# EAGLE library part RJ45-ZP5JA88 (library dragino)
Mod. Jack, Right Angle, 8 posiotion, 8 contatcs RJ45 Source: GLX-S-88M.pdf
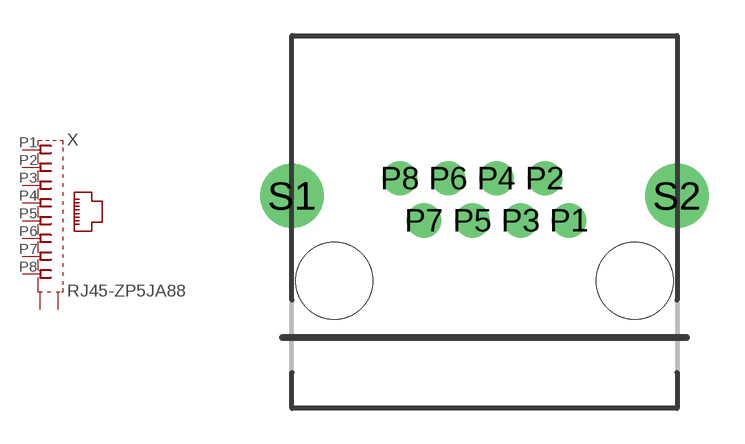
[diagram p27: symbol with the pads of ZP5JA88; footprint ZP5JA88]

Designator prefix X

## RJ45-ZP5JA88 (OC_FARNELL: unknown; OC_NEWARK: unknown)  [ZP5JA88]
P1  1  pas
P2  2  pas
P3  3  pas
P4  4  pas
P5  5  pas
P6  6  pas
P7  7  pas
P8  8  pas
S1  S1  pas
S2  S2  pas

## Footprint ZP5JA88 (pad centres in mm)
Mod. Jack, Right Angle, 8 posiotion, 8 contatcs RJ45 Source: GLX-S-88M.pdf
drill 0.94 pad 1.27: P1 3.57,0.065; P2 2.55,1.845; P3 1.53,0.065; P4 0.51,1.845; P5 -0.51,0.065; P6 -1.53,1.845; P7 -2.55,0.065; P8 -3.57,1.845
drill 1.8: S1 -8.13,1.103; S2 8.13,1.103
hole 3.25 at -6.35,-2.475
hole 3.25 at 6.35,-2.475